# Altium footprint library 534260210.PcbLib: 1 footprints
Each footprint in its own frame and in the unit in brackets; x right, y up, seen from the top. Pads: shape width x height; smd on the part's side, far side on the other; paste and mask are expansions set on the pad; w line width, h text height; cw(c..) or ccw(c..) is an arc to the next point about the centre after c.
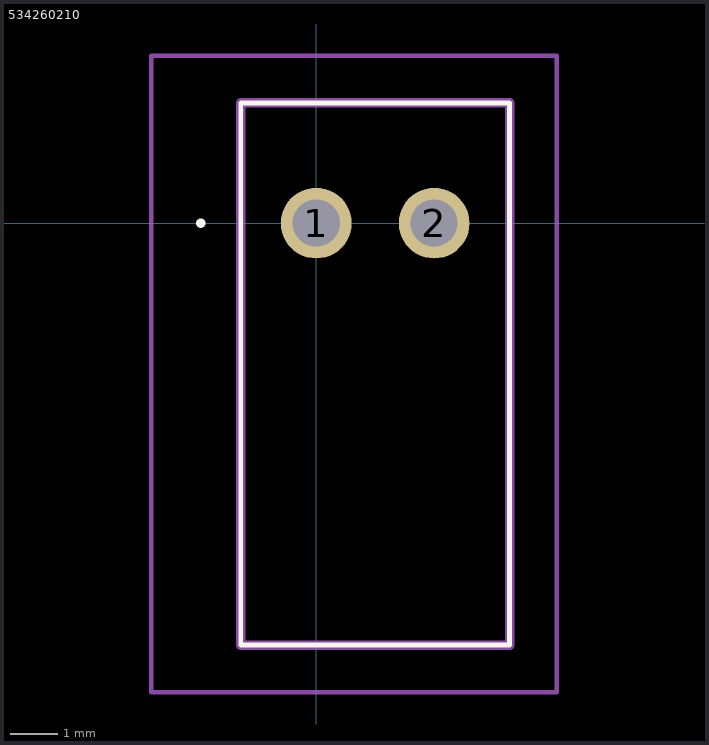
[diagram p0: the footprint, top view; thin cyan lines are the x and y axes]

## 534260210 [mm]
pads (2):
  round 1.5 hole 1: 1(0,0) 2(2.5,0)
Top Overlay:
  lines w0.1: -2.5,0 -2.5,0 ; -2.5,0 ccw(c-2.45,0) -2.4,0 ; -2.5,0 cw(c-2.45,0) -2.4,0 ; -2.4,0 -2.4,0 ; -1.6,-8.95 4.1,-8.95 4.1,2.55 -1.6,2.55 -1.6,-8.95
Mechanical 15:
  lines w0.2: -1.6,-8.95 4.1,-8.95 4.1,2.55 -1.6,2.55 -1.6,-8.95
Mechanical 20:
  lines w0.1: -3.5,-9.95 5.1,-9.95 5.1,3.55 -3.5,3.55 -3.5,-9.95